# Altium schematic symbol library ESP32.SCHLIB: 1 symbol
Pins are listed as number, name and electrical type; pins without a type are passive.

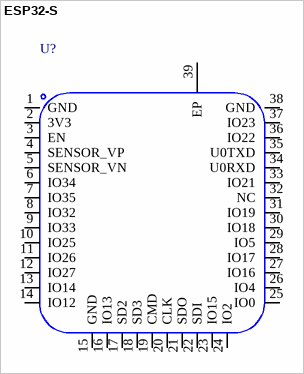
[diagram p0: symbol ESP32-S]

## ESP32-S
designator U?
Manufacturer: Ai-Thinker(安信可); Symbol: ESP32-S; Add into BOM: yes; Device: ESP32-S; LCSC Part Name: ESP32-S; Supplier Part: C277944; Manufacturer Part: ESP32-S; Supplier Footprint: SMD Module; JLCPCB Part Class: Extended Part; Datasheet: https://atta.szlcsc.com/upload/public/pdf/source/20211217/F4BEA33E732D6002D10DAED85BBCB52B.pdf; Supplier: LCSC; Convert to PCB: yes
footprint WIRELM-SMD_ESP32-S
3D model WIRELM-SMD_L25.5-W18.0-H2.8-ESP32-S
pins: 1 GND, 2 3V3, 3 EN, 4 SENSOR_VP, 5 SENSOR_VN, 6 IO34, 7 IO35, 8 IO32, 9 IO33, 10 IO25, 11 IO26, 12 IO27, 13 IO14, 14 IO12, 15 GND, 16 IO13, 17 SD2, 18 SD3, 19 CMD, 20 CLK, 21 SDO, 22 SDI, 23 IO15, 24 IO2, 25 IO0, 26 IO4, 27 IO16, 28 IO17, 29 IO5, 30 IO18, 31 IO19, 32 NC, 33 IO21, 34 U0RXD, 35 U0TXD, 36 IO22, 37 IO23, 38 GND, 39 EP